# Altium footprint library PFSM_150_2.PcbLib: 1 footprints
Each footprint in its own frame and in the unit in brackets; x right, y up, seen from the top. Pads: shape width x height; smd on the part's side, far side on the other; paste and mask are expansions set on the pad; w line width, h text height; cw(c..) or ccw(c..) is an arc to the next point about the centre after c.
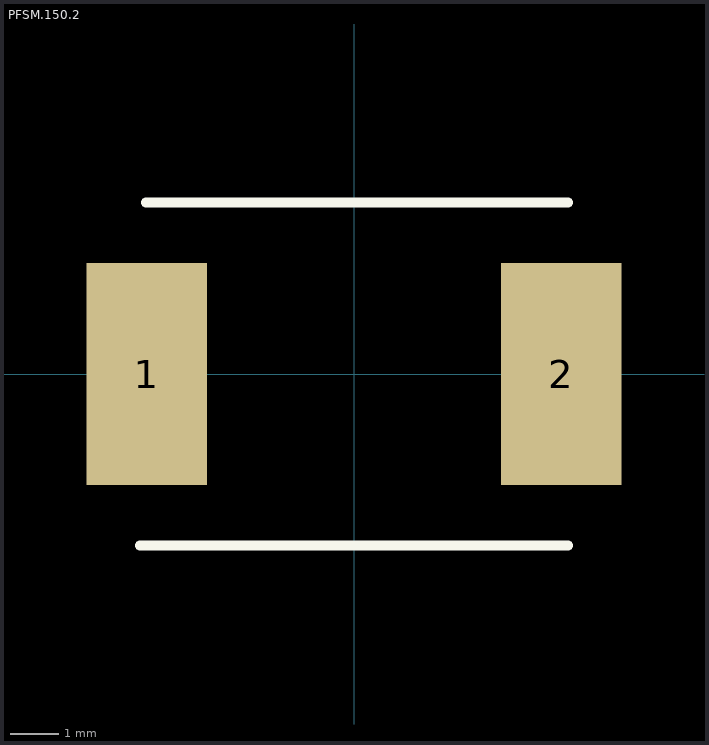
[diagram p0: the footprint, top view; thin cyan lines are the x and y axes]

## PFSM.150.2 [mm]
pads (2):
  rect 2.5x4.6 smd: 1(-4.3,0) 2(4.3,0)
Top Overlay:
  lines w0.2: -4.445,-3.556 4.445,-3.556 ; -4.318,3.556 4.445,3.556
3D body "pfsm-150-2.stp": height 2.99, standoff -0.01, extent -4.375,-3.355 4.375,3.355